# EAGLE library part IC-ATMEGA32U2 (library ic)
ATmega32U2
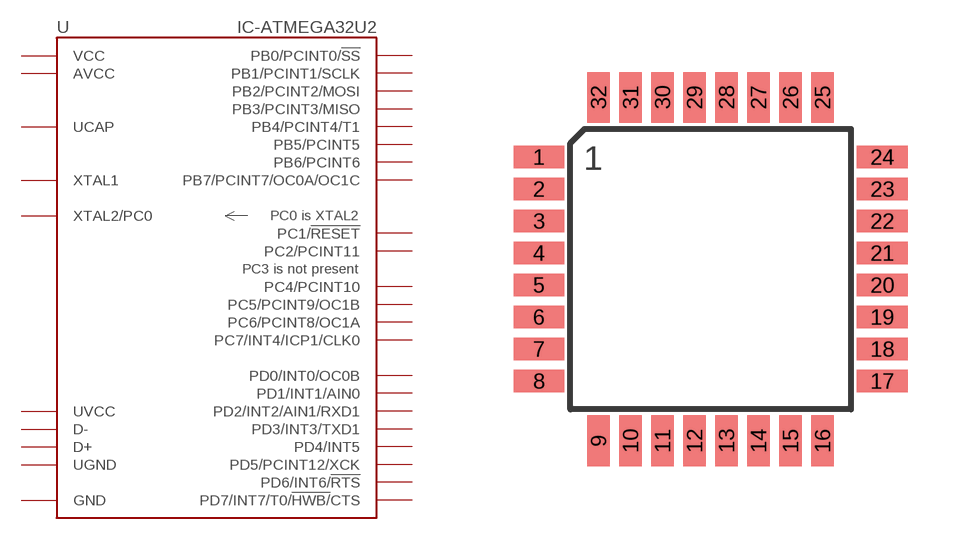
[diagram p4: symbol with the pads of IC-32-TQFP-08; footprint IC-32-TQFP-08]

Designator prefix U

## IC-ATMEGA32U2-TQFP  [IC-32-TQFP-08]
1  XTAL1
2  XTAL2/PC0
3  GND  pwr
4  VCC  pwr
5  PC2/PCINT11
6  PD0/INT0/OC0B
7  PD1/INT1/AIN0
8  PD2/INT2/AIN1/RXD1
9  PD3/INT3/TXD1
10  PD4/INT5
11  PD5/PCINT12/XCK
12  PD6/INT6/!RTS
13  PD7/INT7/T0/!HWB/!CTS
14  PB0/PCINT0/!SS
15  PB1/PCINT1/SCLK
16  PB2/PCINT2/MOSI
17  PB3/PCINT3/MISO
18  PB4/PCINT4/T1
19  PB5/PCINT5
20  PB6/PCINT6
21  PB7/PCINT7/OC0A/OC1C
22  PC7/INT4/ICP1/CLK0
23  PC6/PCINT8/OC1A
24  PC1/!RESET
25  PC5/PCINT9/OC1B
26  PC4/PCINT10
27  UCAP  pas
28  UGND  pwr
29  D+
30  D-
31  UVCC  pwr
32  AVCC  pwr

## Footprint IC-32-TQFP-08 (pad centres in mm)
TQFP (Thin Quad Flat Package), 32 pin, 0.8mm spacing
smd 1.27 x 0.559: 1 -4.293,2.8; 2 -4.293,2; 3 -4.293,1.2; 4 -4.293,0.4; 5 -4.293,-0.4; 6 -4.293,-1.2; 7 -4.293,-2; 8 -4.293,-2.8; 17 4.293,-2.8; 18 4.293,-2; 19 4.293,-1.2; 20 4.293,-0.4; 21 4.293,0.4; 22 4.293,1.2; 23 4.293,2; 24 4.293,2.8
smd 0.559 x 1.27: 9 -2.8,-4.293; 10 -2,-4.293; 11 -1.2,-4.293; 12 -0.4,-4.293; 13 0.4,-4.293; 14 1.2,-4.293; 15 2,-4.293; 16 2.8,-4.293; 25 2.8,4.293; 26 2,4.293; 27 1.2,4.293; 28 0.4,4.293; 29 -0.4,4.293; 30 -1.2,4.293; 31 -2,4.293; 32 -2.8,4.293